# Altium footprint library SOIC Pad Lib.PcbLib: 3 footprints
Each footprint in its own frame and in the unit in brackets; x right, y up, seen from the top. Pads: shape width x height; smd on the part's side, far side on the other; paste and mask are expansions set on the pad; w line width, h text height; cw(c..) or ccw(c..) is an arc to the next point about the centre after c.
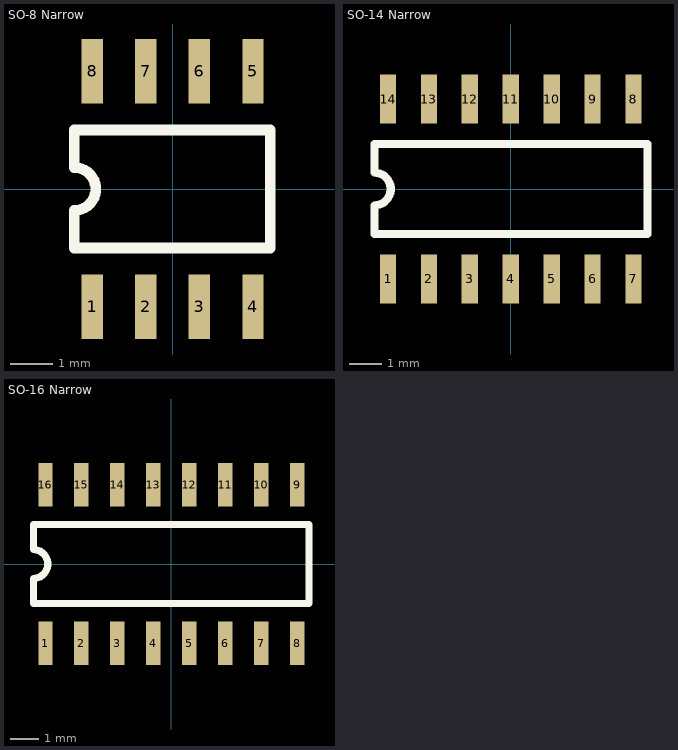
[diagram p0: the footprints below, top view; thin cyan lines are the x and y axes]

## SO-8 Narrow [mil] "SO-8 Narrow"
pads (8):
  rect 20x60 smd: 1(-75,-110) 2(-25,-110) 3(25,-110) 4(75,-110) 5(75,110) 6(25,110) 7(-25,110) 8(-75,110)
Top Overlay:
  lines w10: -91.75,-55 -91.75,-20 ccw(c-91.75,0) -91.75,20 -91.75,55 91,55 91,-55 -91.75,-55
3D body: height 171, standoff -22, extent 0,0 0,0
3D body: height 171, standoff -22, extent 0,0 0,0
3D body "SO-8 Narrow.step": height 57, standoff 0, extent -96.75,-115 96.25,112.49

## SO-14 Narrow [mil] "SO-14 Narrow"
pads (14):
  rect 20x60 smd: 1(-150,-110) 2(-100,-110) 3(-50,-110) 4(0,-110) 5(50,-110) 6(100,-110) 7(150,-110) 8(150,110) 9(100,110) 10(50,110) 11(0,110) 12(-50,110) 13(-100,110) 14(-150,110)
Top Overlay:
  lines w10: -166.75,-55 -166.75,-20 ccw(c-166.75,0) -166.75,20 -166.75,55 167,55 167,-55 -166.75,-55
3D body: height 171, standoff -22, extent -70,0 -70,0
3D body: height 171, standoff -22, extent -70,0 -70,0
3D body "SOIC-14 Narrow.step": height 68.9, standoff 0, extent -172.24,-118.1 172.25,118.12

## SO-16 Narrow [mil] "SO-16 Narrow"
pads (16):
  rect 20x60 smd: 1(-175,-110) 2(-125,-110) 3(-75,-110) 4(-25,-110) 5(25,-110) 6(75,-110) 7(125,-110) 8(175,-110) 9(175,110) 10(125,110) 11(75,110) 12(25,110) 13(-25,110) 14(-75,110) 15(-125,110) 16(-175,110)
Top Overlay:
  lines w10: -191.75,-55 -191.75,-20 ccw(c-191.75,0) -191.75,20 -191.75,55 191,55 191,-55 -191.75,-55
3D body: height 171, standoff -22, extent -100,0 -100,0
3D body: height 171, standoff -22, extent -100,0 -100,0
3D body "SOIC-16 Narrow.step": height 68.9, standoff 0, extent -196.85,-118.1 196.86,118.12